# Altium footprint library Diode_SMD.PcbLib: 90 footprints (part 6 of 6)
Each footprint in its own frame and in the unit in brackets; x right, y up, seen from the top. Pads: shape width x height; smd on the part's side, far side on the other; paste and mask are expansions set on the pad; w line width, h text height; cw(c..) or ccw(c..) is an arc to the next point about the centre after c.
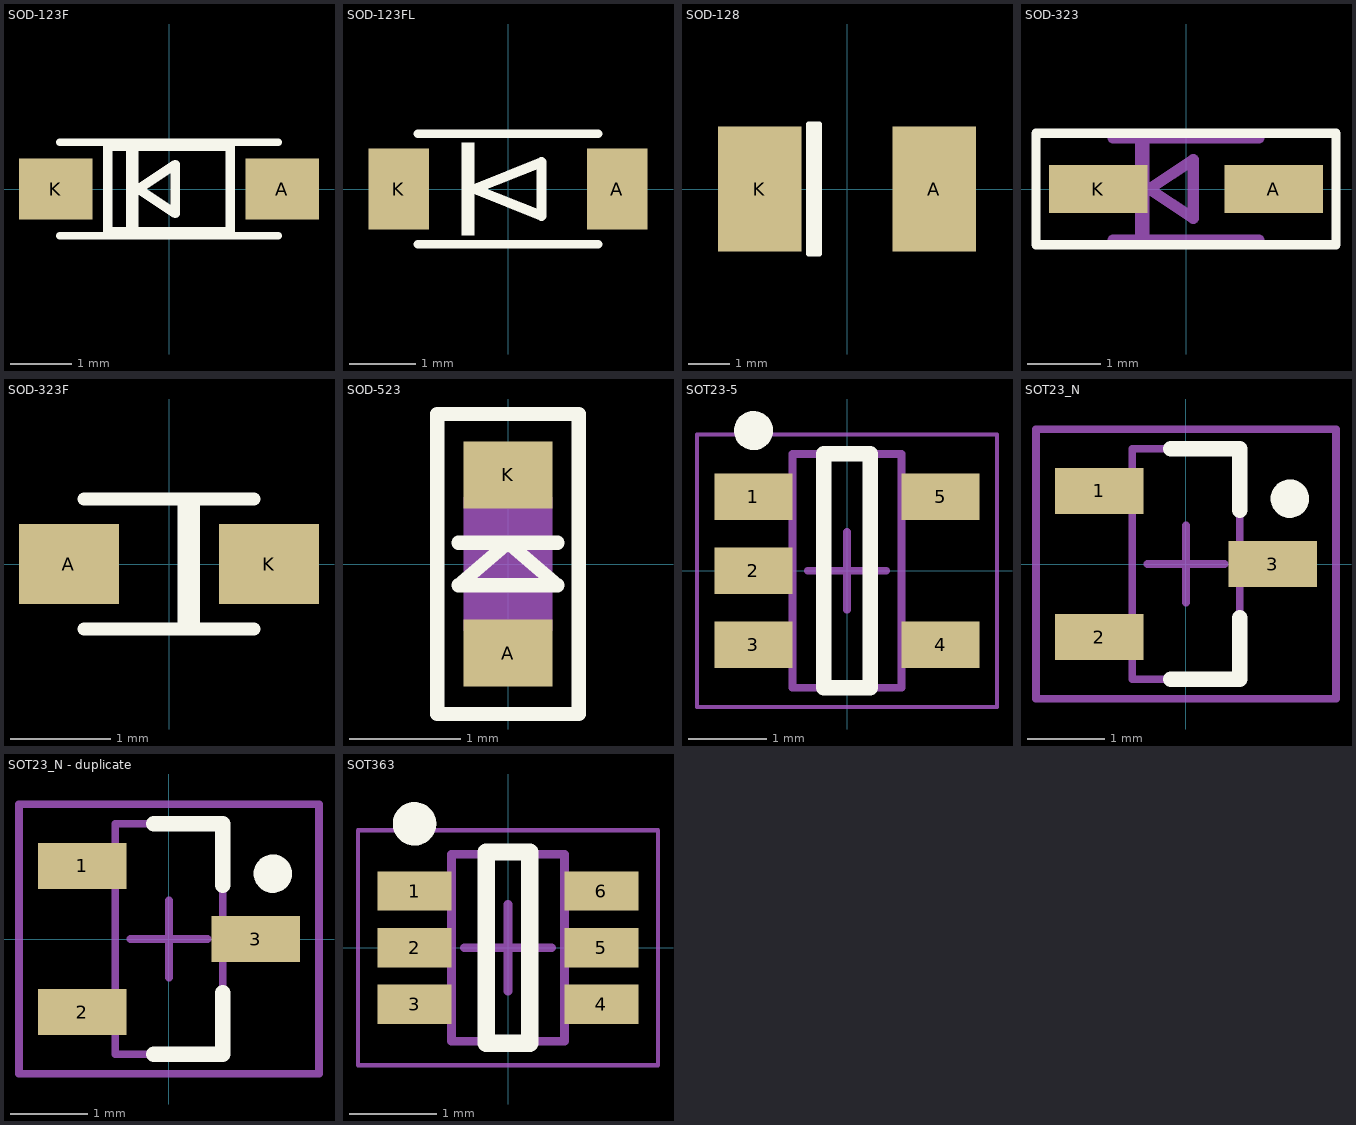
[diagram p5: the footprints below, top view; thin cyan lines are the x and y axes]

## SOD-123F [mm]
pads (2):
  rect 1.2x1 smd: A(1.85,0) K(-1.85,0)
Top Overlay:
  rectangle: -0.7,-0.7 -0.5,0.7
  lines w0.127: -1.778,-0.762 1.778,-0.762 ; -1.778,0.762 1.778,0.762
  lines w0.152: -1,-0.7 1,-0.7 1,0.7 -1,0.7 -1,-0.7 ; -0.5,0 0.1,0.4 0.1,-0.4 -0.5,0
3D body "User Library-SOD123F.step": height 1.2, standoff -0.01, extent -1.9,-0.85 1.85,0.85

## SOD-123FL [mm]
pads (2):
  rect 0.91x1.22 smd: A(1.638,0) K(-1.638,0)
Top Overlay:
  rectangle: -0.7,-0.7 -0.5,0.7
  lines w0.127: -1.35,-0.825 1.35,-0.825 ; -1.35,0.825 1.35,0.825
  lines w0.152: -0.5,0 0.5,0.4 0.5,-0.4 -0.5,0
3D body "User Library-SOD123F.step": height 1.2, standoff -0.01, extent -1.875,-0.85 1.875,0.85

## SOD-128 [mm]
pads (2):
  rect 2x3 smd: A(2.095,0) K(-2.095,0)
Top Overlay:
  lines w0.127: -0.914,-1.549 -0.66,-1.549 -0.66,1.549 -0.914,1.549 -0.914,-1.549
  lines w0.254: -0.813,-1.473 -0.813,1.397
3D body "SOD128.step": height 1.1, standoff -0.01, extent -2.564,-1.35 2.437,1.35

## SOD-323 [mm]
pads (2):
  rect 1.35x0.65 smd: A(1.2,0) K(-1.2,0)
Top Overlay:
  lines w0.127: -2.05,-0.762 2.05,-0.762 2.05,0.762 -2.05,0.762 -2.05,-0.762
Mechanical 16:
  rectangle: -0.7,-0.7 -0.5,0.7
  lines w0.152: -1,-0.7 1,-0.7 ; -1,0.7 1,0.7 ; -0.5,0 0.1,0.4 0.1,-0.4 -0.5,0
3D body "User Library-SOD-323.step": height 1.1, standoff 0, extent -1.3,-0.675 1.3,0.675

## SOD-323F [mm]
pads (2):
  rect 1x0.8 smd: A(-1,0) K(1,0)
Top Overlay:
  lines w0.127: -0.85,-0.65 0.85,-0.65 ; -0.85,0.65 0.85,0.65 ; 0.148,0.6 0.148,-0.6 0.248,-0.6 0.248,0.6
Mechanical 16:
  lines w0.127: -0.9,-0.2 -1.2,-0.2 -1.2,0.2 -0.9,0.2 ; 0.9,-0.2 1.2,-0.2 1.2,0.2 0.9,0.2
3D body "User Library-SOD323F-1.step": height 1, standoff 0, extent -1.25,-0.7 1.25,0.65

## SOD-523 [mil]
pads (2):
  rect 31.5x23.62 smd: A(0,-31.5) K(0,31.5)
Top Overlay:
  lines w5: -17.5,7.5 17.5,7.5 ; -25,-53 25,-53 25,53 -25,53 -25,-53 ; -17.5,-7.5 17.5,-7.5 0,7.5 -17.5,-7.5
Mechanical 16:
  rectangle: -15.75,-23.62 15.75,23.62
  rectangle: -5.91,-31.5 5.91,-23.62
  rectangle: -5.91,23.62 5.91,31.5
3D body "User Library-SOD-523F.step": height 27.56, standoff 0, extent -15.69,-31.5 15.71,31.5

## SOT23-5 [mm] "SOT23, 5-Leads, Body 2,90x2,45mm, Pitch 0,95mm, IPC Medium Density"
height 1.1
pads (5):
  rect 1x0.6 smd: 1(-1.2,0.95) 2(-1.2,0) 3(-1.2,-0.95) 4(1.2,-0.95) 5(1.2,0.95)
Top Overlay:
  circle w0.25: c-1.2,1.8 r0.125
  lines w0.2: -0.3,-1.5 -0.3,1.5 0.3,1.5 0.3,-1.5 -0.3,-1.5
Mechanical 13:
  lines w0.1: -0.7,-1.5 0.7,-1.5 0.7,1.5 -0.7,1.5 -0.7,-1.5
Mechanical 15:
  lines w0.05: -1.925,-1.75 1.925,-1.75 1.925,1.75 -1.925,1.75 -1.925,-1.75
  lines w0.1: -0.5,0 0.5,0 ; 0,-0.5 0,0.5
3D body "SOT95P245X110-5N.step": height 1.1, standoff 0, extent -1.3,-1.5 1.3,1.5

## SOT23_N [mm] "SOT23, 3-Leads, Body 2.9x1.3mm, Pitch 0.95mm, Lead Span 2.3mm - Reverse Pinning, IPC Medium Density"
height 1.1
pads (3):
  rect 1.15x0.6 smd: 1(-1.125,0.95) 2(-1.125,-0.95) 3(1.125,0)
Top Overlay:
  circle w0.25: c1.35,0.85 r0.125
  lines w0.2: -0.2,-1.5 0.7,-1.5 0.7,-0.7 ; -0.2,1.5 0.7,1.5 0.7,0.7
Mechanical 13:
  lines w0.1: -0.7,-1.5 -0.7,1.5 0.7,1.5 0.7,-1.5 -0.7,-1.5
Mechanical 15:
  lines w0.1: -0.5,0 0.5,0 ; 0,-0.5 0,0.5 ; -1.95,-1.75 -1.95,1.75 1.95,1.75 1.95,-1.75 -1.95,-1.75
3D body "User Library-3-lead sot23-3.step": height 0.98, standoff -0.04, extent -1.25,-1.46 1.226,1.46

## SOT23_N - duplicate [mm] "SOT23, 3-Leads, Body 2.9x1.3mm, Pitch 0.95mm, Lead Span 2.3mm - Reverse Pinning, IPC Medium Density"
height 1.1
pads (3):
  rect 1.15x0.6 smd: 1(-1.125,0.95) 2(-1.125,-0.95) 3(1.125,0)
Top Overlay:
  circle w0.25: c1.35,0.85 r0.125
  lines w0.2: -0.2,-1.5 0.7,-1.5 0.7,-0.7 ; -0.2,1.5 0.7,1.5 0.7,0.7
Mechanical 13:
  lines w0.1: -0.7,-1.5 0.7,-1.5 0.7,1.5 -0.7,1.5 -0.7,-1.5
Mechanical 15:
  lines w0.1: -0.5,0 0.5,0 ; 0,-0.5 0,0.5 ; -1.95,-1.75 1.95,-1.75 1.95,1.75 -1.95,1.75 -1.95,-1.75
3D body "User Library-3-lead sot23-3.step": height 0.98, standoff -0.04, extent -1.25,-1.46 1.226,1.46

## SOT363 [mm] "SOT363, 6-Leads, Body 2.15x2.10mm, Pitch 0.65mm, IPC Medium Density"
height 1
pads (6):
  rect 0.85x0.45 smd: 1(-1.075,0.65) 2(-1.075,0) 3(-1.075,-0.65) 4(1.075,-0.65) 5(1.075,0) 6(1.075,0.65)
Top Overlay:
  circle w0.25: c-1.075,1.425 r0.125
  lines w0.2: -0.25,-1.1 -0.25,1.1 0.25,1.1 0.25,-1.1 -0.25,-1.1
Mechanical 13:
  lines w0.1: -0.65,-1.075 0.65,-1.075 0.65,1.075 -0.65,1.075 -0.65,-1.075
Mechanical 15:
  lines w0.05: -1.725,-1.35 1.725,-1.35 1.725,1.35 -1.725,1.35 -1.725,-1.35
  lines w0.1: -0.5,0 0.5,0 ; 0,-0.5 0,0.5
3D body "SOT363.step": height 1, standoff 0, extent -1.05,-1.075 1.05,1.075